# EAGLE library part ICM-42688-P (library ICM-42688-P)
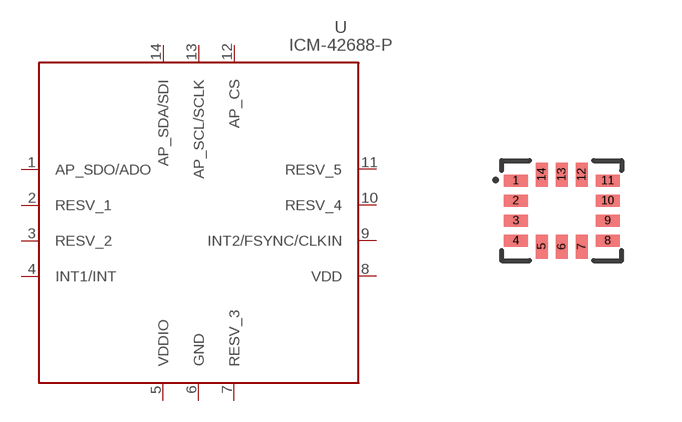
[diagram p0: symbol with the pads of ICM-42688-P; footprint ICM-42688-P]

Designator prefix U

## ICM-42688-P  [ICM-42688-P]
1  AP_SDO/ADO
2  RESV_1
3  RESV_2
4  INT1/INT
5  VDDIO  pwr
6  GND
7  RESV_3
8  VDD  pwr
9  INT2/FSYNC/CLKIN
10  RESV_4
11  RESV_5
12  AP_CS
13  AP_SCL/SCLK
14  AP_SDA/SDI

## Footprint ICM-42688-P (pad centres in mm)
smd 0.6 x 0.3: 1 -1.15,0.75; 2 -1.15,0.25; 3 -1.15,-0.25; 4 -1.15,-0.75; 8 1.15,-0.75; 9 1.15,-0.25; 10 1.15,0.25; 11 1.15,0.75
smd 0.3 x 0.6: 5 -0.5,-0.9; 6 0,-0.9; 7 0.5,-0.9; 12 0.5,0.9; 13 0,0.9; 14 -0.5,0.9